# EAGLE library part BSS84DW-7-F (library EVGP_Estop_Motherboard)
dual mosfet
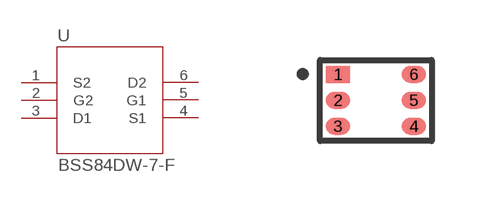
[diagram p0: symbol with the pads of SOT-363; footprint SOT-363]

Designator prefix U

## BSS84DW-7-F (MANUFACTURER_PART_NUMBER: BSS84DW7F; VENDOR: Diodes Inc)  [SOT-363]
1  S2  pas
2  G2  pas
3  D1  pas
4  S1  pas
5  G1  pas
6  D2  pas

## Footprint SOT-363 (pad centres in mm)
https://www.digikey.com/product-detail/en/diodes-incorporated/BSS84DW-7-F/BSS84DW-FDITR-ND/717725
smd 0.6 x 0.42: 1 -0.95,0.65; 2 -0.95,0; 3 -0.95,-0.65; 4 0.95,-0.65; 5 0.95,0; 6 0.95,0.65